# EAGLE library part RS485BRD_SPI (library domonetic)
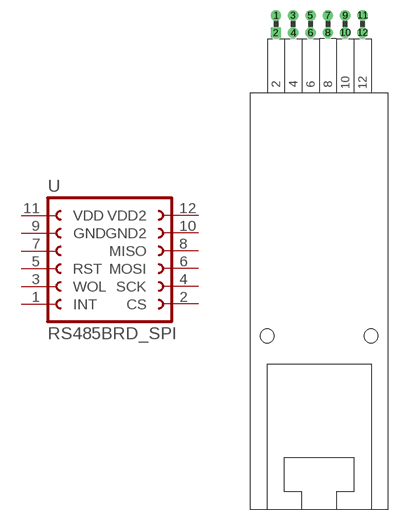
[diagram p9: symbol with the pads of PTHENC28J60ETH; footprint PTHENC28J60ETH]

Designator prefix -

## RS485BRD_SPI  [PTHENC28J60ETH]
1  INT  out
2  CS  in
3  WOL  out
4  SCK  in
5  RST  in
6  MOSI  in
7  NC  nc
8  MISO  out
9  GND  pwr
10  GND2  pwr
11  VDD  pwr
12  VDD2  pwr

## Footprint PTHENC28J60ETH (pad centres in mm)
FEMALE HEADER
drill 0.9 pad 1.524: 1 0,0; 3 2.54,0; 4 2.54,-2.54; 5 5.08,0; 6 5.08,-2.54; 7 7.62,0; 8 7.62,-2.54; 9 10.16,0; 10 10.16,-2.54; 11 12.7,0; 12 12.7,-2.54
drill 0.9 pad 1.524 square: 2 0,-2.54
hole 2 at -1.27,-46.99
hole 2 at 13.97,-46.99